# EAGLE library part TPG-112-2X12V (library balmer)
Transformator mit Mittelanzapfung
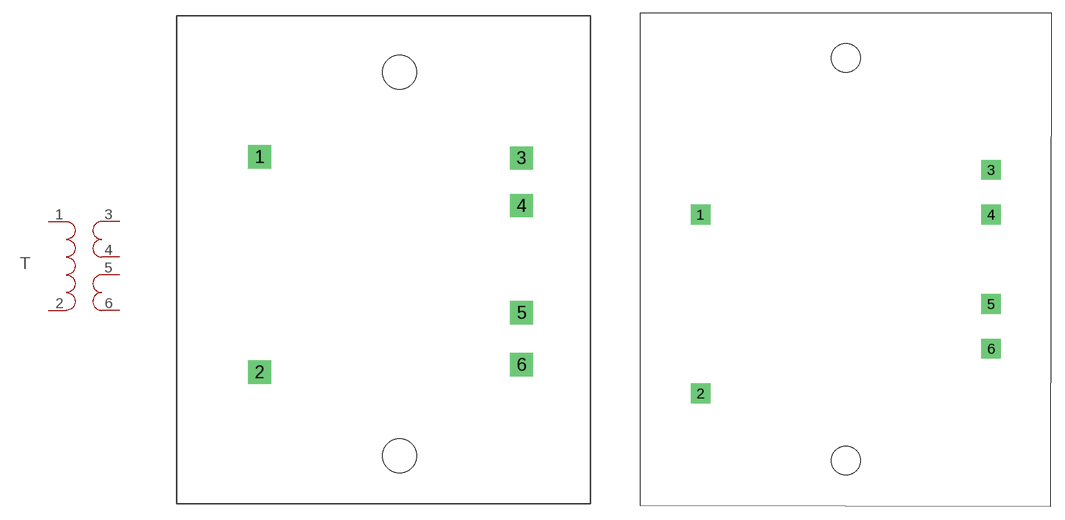
[diagram p3: symbol with the pads of TPG-112-2X12V; footprints TPG-112-2X12V, TRANS-2X9V]

Designator prefix T

## TPG-112-2X12V  [TPG-112-2X12V]
1  1  pas
2  2  pas
3  3  pas
4  4  pas
5  5  pas
6  6  pas

## TPG-112-2X12V2X9  [TRANS-2X9V]
Pads as for TPG-112-2X12V

## Footprint TPG-112-2X12V (pad centres in mm)
Dummy
drill 0.8 pad 2.184 square: 1 -12.52,9.845; 2 -12.52,-10.465; 3 12.18,9.74; 4 12.18,5.24; 5 12.18,-4.86; 6 12.18,-9.76
hole 3.2 at 0.68,-18.36
hole 3.2 at 0.68,17.84

## Footprint TRANS-2X9V (pad centres in mm)
TP 114-K20
drill 0.8 pad 2.184 square: 1 -16.25,5; 2 -16.25,-15; 3 16.25,10; 4 16.25,5; 5 16.25,-5; 6 16.25,-10
hole 3.2 at 0,-22.5
hole 3.2 at 0,22.5